# EAGLE library part MOLEX-502774-0891-MICROSD (library Ava)
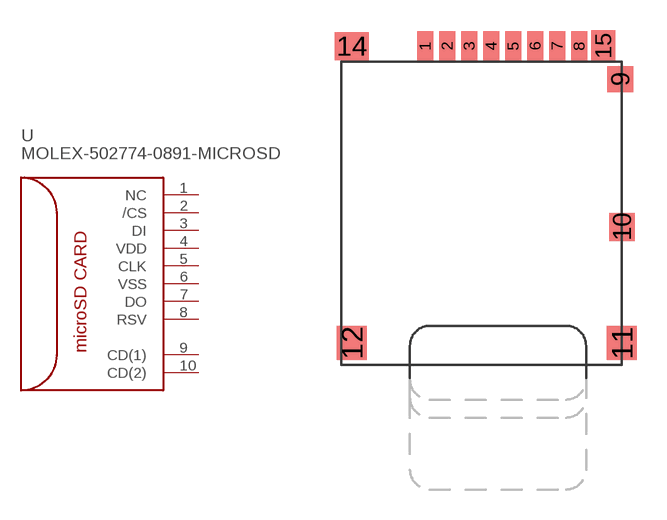
[diagram p60: symbol with the pads of MOLEX-502774-0891-MICROSD; footprint MOLEX-502774-0891-MICROSD]

Designator prefix -

## MOLEX-502774-0891-MICROSD (FARNELL: 2064063)  [MOLEX-502774-0891-MICROSD]
1  NC
2  /CS
3  DI
4  VDD
5  CLK
6  VSS
7  DO
8  RSV
9  CD(1)
10  CD(2)

## Footprint MOLEX-502774-0891-MICROSD (pad centres in mm)
smd 0.8 x 1.5: 1 -3.3,8.2; 2 -2.2,8.2; 3 -1.1,8.2; 4 0,8.2; 5 1.1,8.2; 6 2.2,8.2; 7 3.3,8.2; 8 4.4,8.2
smd 1.29 x 1.3: 9 6.455,6.55
smd 1.29 x 1.4: 10 6.54,-0.85
smd 1.5 x 1.7: 11 6.54,-6.65; 12 -6.96,-6.65
smd 1.7 x 1.4: 14 -6.96,8.2
smd 1.2 x 1.6: 15 5.6,8.2